# Altium footprint library CGRA_pcblib.PcbLib: 54 footprints (part 3 of 4)
Each footprint in its own frame and in the unit in brackets; x right, y up, seen from the top. Pads: shape width x height; smd on the part's side, far side on the other; paste and mask are expansions set on the pad; w line width, h text height; cw(c..) or ccw(c..) is an arc to the next point about the centre after c.
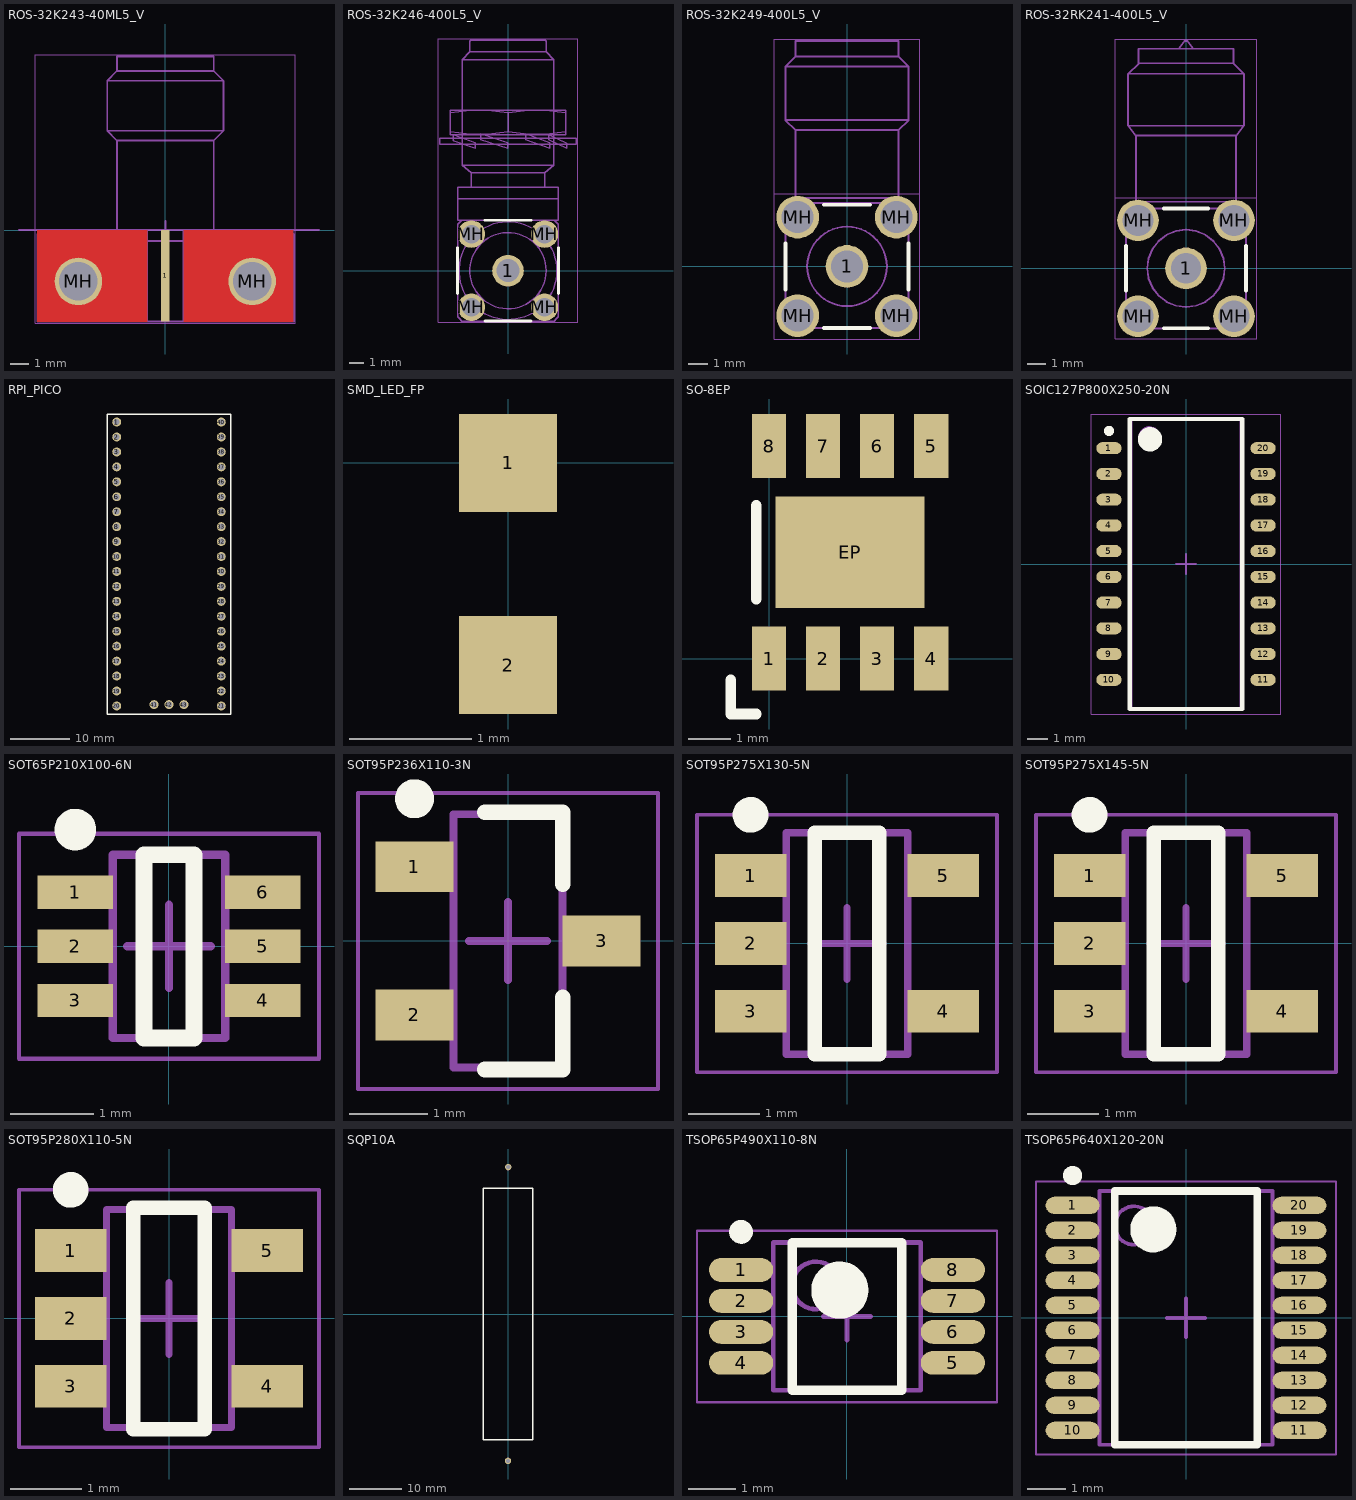
[diagram p2: the footprints below, top view; thin cyan lines are the x and y axes]

## ROS-32K243-40ML5_V [mm] "SMA Jack, Right Angle, Edge Mount Screw On, 14.50x14.00x5.15mm, Rosenberger Recommended"
height 5.15
pads (3):
  rect 0.48x5 smd: 1(0,-2.5)
  round 2.6 hole 2.1: MH(-4.75,-2.8) MH(4.75,-2.8)
Top Layer:
  region: 1,0 4.75,0 4.75,-1.75 4.888,-1.75 5.155,-1.822 5.395,-1.96 5.59,-2.155 5.728,-2.395 5.8,-2.662 5.8,-2.938 5.728,-3.205 5.59,-3.445 5.395,-3.64 5.155,-3.778 4.888,-3.85 4.75,-3.85 4.612,-3.85 4.345,-3.778 4.105,-3.64 3.91,-3.445 3.772,-3.205 3.7,-2.938 3.7,-2.662 3.772,-2.395 3.91,-2.155 4.105,-1.96 4.345,-1.822 4.612,-1.75 4.75,-1.75 4.75,0 7,0 7,-5 1,-5
  region: -1,0 -4.75,0 -4.75,-1.75 -4.888,-1.75 -5.155,-1.822 -5.395,-1.96 -5.59,-2.155 -5.728,-2.395 -5.8,-2.662 -5.8,-2.938 -5.728,-3.205 -5.59,-3.445 -5.395,-3.64 -5.155,-3.778 -4.888,-3.85 -4.75,-3.85 -4.612,-3.85 -4.345,-3.778 -4.105,-3.64 -3.91,-3.445 -3.772,-3.205 -3.7,-2.938 -3.7,-2.662 -3.772,-2.395 -3.91,-2.155 -4.105,-1.96 -4.345,-1.822 -4.612,-1.75 -4.75,-1.75 -4.75,0 -7,0 -7,-5 -1,-5
Bottom Layer:
  region: -1,0 -4.75,0 -4.75,-1.75 -4.888,-1.75 -5.155,-1.822 -5.395,-1.96 -5.59,-2.155 -5.728,-2.395 -5.8,-2.662 -5.8,-2.938 -5.728,-3.205 -5.59,-3.445 -5.395,-3.64 -5.155,-3.778 -4.888,-3.85 -4.75,-3.85 -4.612,-3.85 -4.345,-3.778 -4.105,-3.64 -3.91,-3.445 -3.772,-3.205 -3.7,-2.938 -3.7,-2.662 -3.772,-2.395 -3.91,-2.155 -4.105,-1.96 -4.345,-1.822 -4.612,-1.75 -4.75,-1.75 -4.75,0 -7,0 -7,-5 -1,-5
  region: 1,0 4.75,0 4.75,-1.75 4.888,-1.75 5.155,-1.822 5.395,-1.96 5.59,-2.155 5.728,-2.395 5.8,-2.662 5.8,-2.938 5.728,-3.205 5.59,-3.445 5.395,-3.64 5.155,-3.778 4.888,-3.85 4.75,-3.85 4.612,-3.85 4.345,-3.778 4.105,-3.64 3.91,-3.445 3.772,-3.205 3.7,-2.938 3.7,-2.662 3.772,-2.395 3.91,-2.155 4.105,-1.96 4.345,-1.822 4.612,-1.75 4.75,-1.75 4.75,0 7,0 7,-5 1,-5
Mechanical 3:
  lines w0.1: -8,0 8.4,0
  text "Board Edge" at -10.5,0.1 h0.2
Mechanical 13:
  circle w0.1: c-4.75,-2.8 r1.89
  circle w0.1: c4.75,-2.8 r1.89
  lines w0.1: -7,-0.6 7,-0.6 ; -6.458,-5 -6.458,-0.2 ; -2.65,-0.2 -2.65,4.9 ; -1,-5 -1,-0.2 ; -1,-0.6 1,-0.6 ; -0.125,0 -0.125,-0.79 0.125,-0.79 0.125,0 ; 1,-5 1,-0.2 ; 2.65,-0.2 2.65,4.9 ; 6.458,-5 6.458,-0.2 ; -6.458,-0.2 -1,-0.2 ; -6.458,-0.2 -7,-0.2 -7,-5 7,-5 7,-0.2 6.458,-0.2 ; -3.18,5.43 -2.65,4.9 ; -3.18,5.43 -3.18,8.17 ; -3.18,5.43 3.18,5.43 ; -3.18,8.17 -2.65,8.7 ; -3.18,8.17 3.18,8.17 ; -2.65,4.9 2.65,4.9 ; -2.65,8.7 -2.65,9.5 2.65,9.5 2.65,8.7 ; -2.65,8.7 2.65,8.7 ; -1,-0.2 -1,0 1,0 1,-0.2 ; 1,-0.2 6.458,-0.2 ; 2.65,4.9 3.18,5.43 ; 2.65,8.7 3.18,8.17 ; 3.18,5.43 3.18,8.17 ; -5.616,-2.8 -5.183,-3.55 -4.317,-3.55 -3.884,-2.8 -4.317,-2.05 -5.183,-2.05 -5.616,-2.8 ; 3.884,-2.8 4.317,-2.05 5.183,-2.05 5.616,-2.8 5.183,-3.55 4.317,-3.55 3.884,-2.8
Mechanical 15:
  lines w0.05: -7.1,-5.1 7.1,-5.1 7.1,9.6 -7.1,9.6 -7.1,-5.1
  lines w0.1: -0.5,0 0.5,0 ; 0,-0.5 0,0.5
3D body "32k243-40ml5.stp": height 5.15, standoff -4.85, extent -7,-5 7,9.5

## ROS-32K246-400L5_V [mm] "SMA Right Angle Jack, Panel Mount, 19.50x9.50x10.00mm, Rosenberger Recommended"
height 10
pads (5):
  round 2.2 hole 1.6: 1(0,0)
  round 1.9 hole 1.3: MH(-2.54,-2.54) MH(-2.54,2.54) MH(2.54,-2.54) MH(2.54,2.54)
Top Overlay:
  lines w0.2: -3.5,-1.591 -3.5,1.591 ; -1.591,-3.5 1.591,-3.5 ; -1.591,3.5 1.591,3.5 ; 3.5,-1.591 3.5,1.591
Mechanical 13:
  circle w0.1: c0,0 r0.635
  circle w0.1: c0,0 r3.4
  circle w0.1: c0,0 r2.65
  lines w0.1: -4,9.652 -3.439,9.575 -2.887,9.521 -2,9.486 -1.113,9.521 -0.561,9.575 0,9.652 ; -4,10.984 -3.439,11.061 -2.887,11.115 -2,11.15 -1.113,11.115 -0.561,11.061 0,10.984 ; -3.501,-3.21 ccw(c0,0) -3.21,-3.501 ; -3.501,3.21 cw(c0,0) -3.21,3.501 ; -3.5,-3.211 -3.5,3.211 ; -3.211,-3.5 3.211,-3.5 ; -2.56,5.8 -2.56,6.8 ; 1.231,9.5 2.899,8.9 2.899,8.5 1.231,9.11 1.231,9.51 ; 2.56,5.8 2.56,6.8 ; 3.21,-3.501 ccw(c0,0) 3.501,-3.21 ; 3.21,3.501 cw(c0,0) 3.501,3.21 ; 3.5,-3.211 3.5,3.209 ; 4,9.652 3.439,9.575 2.887,9.521 2,9.486 1.113,9.521 0.561,9.575 0,9.652 ; 4,10.984 3.439,11.061 2.887,11.115 2,11.15 1.113,11.115 0.561,11.061 0,10.984 ; -3.5,5 -3.5,3.5 -3.211,3.5 ; -3.5,5 3.5,5 ; -3.5,5 -3.5,5.8 3.5,5.8 3.5,5 ; -3.211,3.5 3.209,3.5 3.5,3.5 3.5,5 ; -3.175,7.325 -3.175,14.675 ; -3.175,7.325 -2.56,6.8 ; -3.175,7.325 3.175,7.325 ; -3.175,14.675 -2.65,15.2 ; -3.175,14.675 3.175,14.675 ; -2.65,15.2 -2.65,15.95 -2.6,16 2.6,16 2.65,15.95 2.65,15.2 ; -2.65,15.2 2.65,15.2 ; -2.56,6.8 2.56,6.8 ; 0,9.652 0,10.984 ; 2.56,6.8 3.175,7.325 ; 2.65,15.2 3.175,14.675 ; 3.175,7.325 3.175,14.675 ; -4.75,8.8 -4.75,9.2 4.75,9.2 4.75,8.8 -4.75,8.8 ; -4,9.45 4,9.45 4,11.15 -4,11.15 -4,9.45 ; -3.82,9.016 -3.81,9.45 -2.263,8.9 -2.263,8.5 -3.82,9.016 ; -2.94,-2.94 -2.94,-2.14 -2.14,-2.14 -2.14,-2.94 -2.94,-2.94 ; -2.94,2.14 -2.14,2.14 -2.14,2.94 -2.94,2.94 -2.94,2.14 ; -1.895,9.1 -1.895,9.5 0,8.9 0,8.5 -1.895,9.1 ; 2.14,-2.94 2.14,-2.14 2.94,-2.14 2.94,-2.94 2.14,-2.94 ; 2.14,2.14 2.94,2.14 2.94,2.94 2.14,2.94 2.14,2.14 ; 2.838,9.1 2.838,9.45 4.1,8.85 4.1,8.5 2.838,9.1
Mechanical 15:
  lines w0.05: -4.85,-3.6 4.85,-3.6 4.85,16.1 -4.85,16.1 -4.85,-3.6
  lines w0.1: -0.5,0 0.5,0 ; 0,-0.5 0,0.5
3D body "32k246-400l5.stp": height 10, standoff -4, extent -4.75,-3.5 4.75,16

## ROS-32K249-400L5_V [mm] "SMA Right Angle Jack, 14.8x6.35x9.7mm, Rosenberger Recommended"
height 9.7
pads (5):
  round 2.2 hole 1.65: 1(0,0) MH(-2.54,-2.54) MH(-2.54,2.54) MH(2.54,-2.54) MH(2.54,2.54)
Top Overlay:
  lines w0.2: -3.175,-1.181 -3.175,1.181 ; -1.181,-3.175 1.181,-3.175 ; -1.181,3.175 1.181,3.175 ; 3.175,-1.181 3.175,1.181
Mechanical 13:
  circle w0.1: c0,0 r0.635
  circle w0.1: c0,0 r2.05
  lines w0.1: -3.175,-1.708 -2.161,-1.708 -2.02,-1.874 -1.866,-2.028 -1.7,-2.17 -1.7,-3.183 ; -3.175,1.708 -2.161,1.708 -2.02,1.874 -1.866,2.028 -1.7,2.17 -1.7,3.183 -2.9,3.183 -3.175,2.908 -3.175,-2.908 -2.9,-3.183 ; -2.9,-3.183 2.9,-3.183 ; 1.7,-3.183 1.7,-2.17 1.866,-2.028 2.02,-1.874 2.161,-1.708 3.175,-1.708 ; 2.9,-3.183 3.175,-2.908 3.175,2.908 2.9,3.183 1.7,3.183 1.7,2.17 1.866,2.028 2.02,1.874 2.161,1.708 3.175,1.708 ; -3.175,7.542 -3.175,10.292 ; -3.175,7.542 3.175,7.542 ; -3.175,7.542 -2.65,7.017 ; -3.175,10.292 3.175,10.292 ; -3.175,10.292 -2.65,10.817 ; -2.65,3.517 -2.65,7.017 ; -2.65,3.517 2.65,3.517 ; -2.65,3.517 -2.9,3.267 2.9,3.267 2.65,3.517 ; -2.65,7.017 2.65,7.017 ; -2.65,10.817 2.65,10.817 ; -2.65,10.817 -2.65,11.617 2.65,11.617 2.65,10.817 ; 2.65,3.517 2.65,7.017 ; 2.65,7.017 3.175,7.542 ; 2.65,10.817 3.175,10.292 ; 3.175,7.542 3.175,10.292 ; -3.04,-3.048 -2.04,-3.048 -2.04,-2.048 -3.04,-2.048 -3.04,-3.048 ; -3.04,2.032 -3.04,3.032 -2.04,3.032 -2.04,2.032 -3.04,2.032 ; 2.04,-3.048 2.04,-2.048 3.04,-2.048 3.04,-3.048 2.04,-3.048 ; 2.04,2.032 3.04,2.032 3.04,3.032 2.04,3.032 2.04,2.032
Mechanical 15:
  lines w0.05: -3.74,3.74 3.74,3.74 ; -3.74,-3.74 3.74,-3.74 3.74,11.717 -3.74,11.717 -3.74,-3.74
  lines w0.1: -0.5,0 0.5,0 ; 0,-0.5 0,0.5
3D body "32k249-400l5.stp": height 9.7, standoff -4, extent -3.175,-3.183 3.175,11.617

## ROS-32RK241-400L5_V [mm] "Reverse-SMA Straight Jack, 15.215x6.35x9.7mm, Rosenberger Recommended"
height 9.7
pads (5):
  round 2.2 hole 1.6: 1(0,0)
  round 2.2 hole 1.65: MH(-2.54,-2.54) MH(-2.54,2.54) MH(2.54,-2.54) MH(2.54,2.54)
Top Overlay:
  lines w0.2: -3.175,-1.181 -3.175,1.181 ; -1.181,-3.175 1.181,-3.175 ; -1.181,3.175 1.181,3.175 ; 3.175,-1.181 3.175,1.181
Mechanical 13:
  circle w0.1: c0,0 r0.635
  lines w0.1: -3.175,-2.9 -3.175,2.9 -3.086,2.995 -2.994,3.086 ; -3.175,-2.9 -3.086,-2.994 -2.995,-3.086 -2.9,-3.175 2.905,-3.175 ; -3.175,-1.7 -2.161,-1.7 ; -3.175,1.7 -2.162,1.7 ; -2.9,3.175 -2.994,3.086 ; -2.65,4.036 -2.65,7.02 -2.65,3.525 ; -2.161,-1.7 -2.02,-1.866 -1.866,-2.02 -1.7,-2.162 ; -2.162,1.7 -2.02,1.866 -1.866,2.02 -1.7,2.161 ; -1.7,-3.175 -1.7,-2.162 ; -1.7,2.161 -1.7,3.175 ; -0.375,11.625 -0.071,12.04 0.071,12.04 0.375,11.625 ; 1.7,-2.161 1.866,-2.02 2.02,-1.866 2.162,-1.7 ; 1.7,2.162 1.866,2.02 2.02,1.866 2.161,1.7 ; 1.7,-3.175 1.7,-2.161 ; 1.7,2.162 1.7,3.175 ; 2.162,-1.7 3.175,-1.7 ; 2.161,1.7 3.175,1.7 ; 2.65,4.036 2.65,7.02 2.65,3.525 ; 2.9,-3.175 2.994,-3.086 3.086,-2.995 3.175,-2.9 ; 3.175,-2.905 3.175,2.9 ; 3.175,2.9 3.086,2.994 2.995,3.086 ; -3.067,7.55 -3.067,10.3 ; -3.067,7.55 -2.65,7.025 ; -3.067,7.55 3.067,7.55 ; -3.067,7.55 -3.067,10.3 ; -3.067,7.55 -2.65,7.025 ; -3.067,10.3 -2.512,10.825 -3.067,10.3 ; -3.067,10.3 3.067,10.3 ; -2.995,3.086 -2.9,3.175 ; -2.9,3.175 2.9,3.175 ; -2.9,3.175 -2.65,3.525 ; -2.65,3.525 2.65,3.525 ; -2.65,7.025 2.65,7.025 ; -2.512,10.855 -2.512,11.625 ; -2.512,10.855 2.512,10.855 ; -2.512,10.855 -2.512,11.625 ; -2.512,11.625 2.511,11.625 -2.512,11.625 ; 2.512,10.855 3.067,10.3 ; 2.512,10.855 2.512,11.625 2.512,10.855 ; 2.512,10.855 3.067,10.3 ; 2.65,3.525 2.9,3.175 ; 2.65,7.025 3.067,7.55 ; 2.65,7.025 3.067,7.55 ; 2.9,3.175 2.995,3.086 ; 2.9,3.175 2.995,3.086 ; 3.067,7.55 3.067,10.3 ; 3.067,7.55 3.067,10.3 ; -3.04,-3.04 -3.04,-2.04 -2.04,-2.04 -2.04,-3.04 -3.04,-3.04 ; -3.04,2.04 -3.04,3.04 -2.04,3.04 -2.04,2.04 -3.04,2.04 ; -2.05,0 -1.98,-0.53 -1.775,-1.025 -1.45,-1.449 -1.025,-1.775 -0.531,-1.98 0,-2.05 0.53,-1.98 1.025,-1.775 1.449,-1.45 1.775,-1.025 1.98,-0.531 2.05,0 1.98,0.53 1.775,1.025 1.45,1.449 1.025,1.775 0.531,1.98 0,2.05 -0.53,1.98 -1.025,1.775 -1.449,1.45 -1.775,1.025 -1.98,0.531 -2.05,0 ; 2.04,-3.04 2.04,-2.04 3.04,-2.04 3.04,-3.04 2.04,-3.04 ; 2.04,2.04 2.04,3.04 3.04,3.04 3.04,2.04 2.04,2.04
Mechanical 15:
  lines w0.05: -3.74,3.74 3.74,3.74 ; -3.74,-3.74 -3.74,12.14 3.74,12.14 3.74,-3.74 -3.74,-3.74
3D body "32rk241-400l5.stp": height 9.7, standoff -4, extent -3.175,-3.175 3.175,12.04

## RPI_PICO [mil]
pads (43):
  round 60 hole 40.16: 1(-15760,40175) 2(-15760,40075) 3(-15760,39975) 4(-15760,39875) 5(-15760,39775) 6(-15760,39675) 7(-15760,39575) 8(-15760,39475) 9(-15760,39375) 10(-15760,39275) 11(-15760,39175) 12(-15760,39075) 13(-15760,38975) 14(-15760,38875) 15(-15760,38775) 16(-15760,38675) 17(-15760,38575) 18(-15760,38475) 19(-15760,38375) 20(-15760,38275) 21(-15060,38275) 22(-15060,38375) 23(-15060,38475) 24(-15060,38575) 25(-15060,38675) 26(-15060,38775) 27(-15060,38875) 28(-15060,38975) 29(-15060,39075) 30(-15060,39175) 31(-15060,39275) 32(-15060,39375) 33(-15060,39475) 34(-15060,39575) 35(-15060,39675) 36(-15060,39775) 37(-15060,39875) 38(-15060,39975) 39(-15060,40075) 40(-15060,40175) 41(-15510,38284.06) 42(-15410,38284.06) 43(-15310,38284.06)
Top Overlay:
  lines w10: -15823.39,38221.06 -14996.61,38221.06 -14996.61,40228.94 -15823.39,40228.94 -15823.39,38221.06

## SMD_LED_FP [mm]
pads (2):
  rect 0.8x0.8 smd: 1(0,0) 2(0,-1.65)

## SO-8EP [mm]
height 1.5
pads (9):
  rect 0.802x1.505 smd: 1(0,0) 2(1.27,0) 3(2.54,0) 4(3.81,0) 5(3.81,4.995) 6(2.54,4.995) 7(1.27,4.995) 8(0,4.995)
  rect 3.502x2.613 smd: EP(1.905,2.498)
Top Overlay:
  lines w0.254: -0.9,-0.5 -0.9,-1.3 -0.3,-1.3 ; -0.3,1.4 -0.3,3.6

## SOIC127P800X250-20N [mm] "SOIC, 20-Leads, Body 14.30x5.40mm, Pitch 1.27mm, IPC Medium Density"
height 2.5
pads (20):
  oval 1.25x0.6 smd: 1(-3.8,5.715) 2(-3.8,4.445) 3(-3.8,3.175) 4(-3.8,1.905) 5(-3.8,0.635) 6(-3.8,-0.635) 7(-3.8,-1.905) 8(-3.8,-3.175) 9(-3.8,-4.445) 10(-3.8,-5.715) 11(3.8,-5.715) 12(3.8,-4.445) 13(3.8,-3.175) 14(3.8,-1.905) 15(3.8,-0.635) 16(3.8,0.635) 17(3.8,1.905) 18(3.8,3.175) 19(3.8,4.445) 20(3.8,5.715)
Top Overlay:
  circle w0.25: c-3.8,6.565 r0.125
  circle w0.6: c-1.775,6.15 r0.3
  lines w0.2: -2.775,-7.15 -2.775,7.15 2.775,7.15 2.775,-7.15 -2.775,-7.15
Mechanical 13:
  circle w0.1: c-1.8,6.25 r0.5
  lines w0.1: -2.7,-7.15 -2.7,7.15 2.7,7.15 2.7,-7.15 -2.7,-7.15
Mechanical 15:
  lines w0.05: -4.675,-7.4 -4.675,7.4 4.675,7.4 4.675,-7.4 -4.675,-7.4
  lines w0.1: -0.5,0 0.5,0 ; 0,-0.5 0,0.5
3D body: height 2.5, standoff 0.1, extent -2.7,-7.15 2.7,7.15

## SOT65P210X100-6N [mm] "SOT23, 6-Leads, Body 2.00x2.10mm, Pitch 0.65mm, IPC Medium Density"
height 1
pads (6):
  rect 0.9x0.4 smd: 1(-1.125,0.65) 2(-1.125,0) 3(-1.125,-0.65) 4(1.125,-0.65) 5(1.125,0) 6(1.125,0.65)
Top Overlay:
  circle w0.25: c-1.125,1.4 r0.125
  lines w0.2: -0.3,-1.1 0.3,-1.1 0.3,1.1 -0.3,1.1 -0.3,-1.1
Mechanical 13:
  lines w0.1: -0.675,-1.1 -0.675,1.1 0.675,1.1 0.675,-1.1 -0.675,-1.1
Mechanical 15:
  lines w0.05: -1.8,-1.35 -1.8,1.35 1.8,1.35 1.8,-1.35 -1.8,-1.35
  lines w0.1: -0.5,0 0.5,0 ; 0,-0.5 0,0.5
3D body: height 1, standoff 0.1, extent -0.675,-1.1 0.675,1.1

## SOT95P236X110-3N [mm] "SOT23, 3-Leads, Body 2.98x2.36mm, Pitch 0.95mm, IPC Medium Density"
height 1.1
pads (3):
  rect 1x0.65 smd: 1(-1.2,0.95) 2(-1.2,-0.95) 3(1.2,0)
Top Overlay:
  circle w0.25: c-1.2,1.825 r0.125
  lines w0.2: -0.3,-1.65 0.7,-1.65 0.7,-0.725 ; -0.3,1.65 0.7,1.65 0.7,0.725
Mechanical 13:
  lines w0.1: -0.7,-1.625 -0.7,1.625 0.7,1.625 0.7,-1.625 -0.7,-1.625
Mechanical 15:
  lines w0.05: -1.925,-1.9 -1.925,1.9 1.925,1.9 1.925,-1.9 -1.925,-1.9
  lines w0.1: -0.5,0 0.5,0 ; 0,-0.5 0,0.5
3D body: height 1.1, standoff 0.1, extent -0.7,-1.625 0.7,1.625

## SOT95P275X130-5N [mm] "SOT23, 5-Leads, Body 2.90x2.75mm, Pitch 0.95mm, IPC Medium Density"
height 1.3
pads (5):
  rect 1x0.6 smd: 1(-1.35,0.95) 2(-1.35,0) 3(-1.35,-0.95) 4(1.35,-0.95) 5(1.35,0.95)
Top Overlay:
  circle w0.25: c-1.35,1.8 r0.125
  lines w0.2: -0.45,-1.55 -0.45,1.55 0.45,1.55 0.45,-1.55 -0.45,-1.55
Mechanical 13:
  lines w0.1: -0.85,-1.55 0.85,-1.55 0.85,1.55 -0.85,1.55 -0.85,-1.55
Mechanical 15:
  lines w0.05: -2.1,-1.8 2.1,-1.8 2.1,1.8 -2.1,1.8 -2.1,-1.8
  lines w0.1: -0.5,0 0.5,0 ; 0,-0.5 0,0.5
3D body: height 1.3, standoff 0.05, extent -0.85,-1.55 0.85,1.55

## SOT95P275X145-5N [mm] "SOT23, 5-Leads, Body 2.90x2.75mm, Pitch 0.95mm, IPC Medium Density"
height 1.45
pads (5):
  rect 1x0.6 smd: 1(-1.35,0.95) 2(-1.35,0) 3(-1.35,-0.95) 4(1.35,-0.95) 5(1.35,0.95)
Top Overlay:
  circle w0.25: c-1.35,1.8 r0.125
  lines w0.2: -0.45,-1.55 -0.45,1.55 0.45,1.55 0.45,-1.55 -0.45,-1.55
Mechanical 13:
  lines w0.1: -0.85,-1.55 0.85,-1.55 0.85,1.55 -0.85,1.55 -0.85,-1.55
Mechanical 15:
  lines w0.05: -2.1,-1.8 2.1,-1.8 2.1,1.8 -2.1,1.8 -2.1,-1.8
  lines w0.1: -0.5,0 0.5,0 ; 0,-0.5 0,0.5
3D body: height 1.45, standoff 0.15, extent -0.85,-1.55 0.85,1.55

## SOT95P280X110-5N [mm] "SOT23, 5-Leads, Body 2.90x2.80mm, Pitch 0.95mm, IPC Medium Density"
height 1.1
pads (5):
  rect 1x0.6 smd: 1(-1.375,0.95) 2(-1.375,0) 3(-1.375,-0.95) 4(1.375,-0.95) 5(1.375,0.95)
Top Overlay:
  circle w0.25: c-1.375,1.8 r0.125
  lines w0.2: -0.5,-1.55 0.5,-1.55 0.5,1.55 -0.5,1.55 -0.5,-1.55
Mechanical 13:
  lines w0.1: -0.875,-1.525 -0.875,1.525 0.875,1.525 0.875,-1.525 -0.875,-1.525
Mechanical 15:
  lines w0.05: -2.1,-1.8 -2.1,1.8 2.1,1.8 2.1,-1.8 -2.1,-1.8
  lines w0.1: -0.5,0 0.5,0 ; 0,-0.5 0,0.5
3D body: height 1.1, standoff 0.25, extent -0.875,-1.525 0.875,1.525

## SQP10A [mm]
pads (2):
  round 1.2 hole 0.8: 1(0.05,28) 2(0,-28)
Top Overlay:
  lines w0.254: -4.75,-24 4.75,-24 4.75,24 -4.75,24 -4.75,-24

## TSOP65P490X110-8N [mm] "TSOP, 8-Leads, Body 3.00x3.00mm, Pitch 0.65mm, IPC Medium Density"
height 1.1
pads (8):
  oval 1.35x0.5 smd: 1(-2.225,0.975) 2(-2.225,0.325) 3(-2.225,-0.325) 4(-2.225,-0.975) 5(2.225,-0.975) 6(2.225,-0.325) 7(2.225,0.325) 8(2.225,0.975)
Top Overlay:
  circle w0.6: c-0.15,0.55 r0.3
  circle w0.25: c-2.225,1.775 r0.125
  lines w0.2: -1.15,-1.55 1.15,-1.55 1.15,1.55 -1.15,1.55 -1.15,-1.55
Mechanical 13:
  circle w0.1: c-0.65,0.65 r0.5
  lines w0.1: -1.55,-1.55 1.55,-1.55 1.55,1.55 -1.55,1.55 -1.55,-1.55
Mechanical 15:
  lines w0.05: -3.15,-1.8 3.15,-1.8 3.15,1.8 -3.15,1.8 -3.15,-1.8
  lines w0.1: -0.5,0 0.5,0 ; 0,-0.5 0,0.5
3D body: height 1.1, standoff 0.05, extent -1.55,-1.55 1.55,1.55

## TSOP65P640X120-20N [mm] "TSOP, 20-Leads, Body 6.50x4.40mm, Pitch 0.65mm, IPC Medium Density"
height 1.2
pads (20):
  oval 1.4x0.45 smd: 1(-2.95,2.925) 2(-2.95,2.275) 3(-2.95,1.625) 4(-2.95,0.975) 5(-2.95,0.325) 6(-2.95,-0.325) 7(-2.95,-0.975) 8(-2.95,-1.625) 9(-2.95,-2.275) 10(-2.95,-2.925) 11(2.95,-2.925) 12(2.95,-2.275) 13(2.95,-1.625) 14(2.95,-0.975) 15(2.95,-0.325) 16(2.95,0.325) 17(2.95,0.975) 18(2.95,1.625) 19(2.95,2.275) 20(2.95,2.925)
Top Overlay:
  circle w0.6: c-0.85,2.3 r0.3
  circle w0.25: c-2.95,3.7 r0.125
  lines w0.2: -1.85,-3.3 1.85,-3.3 1.85,3.3 -1.85,3.3 -1.85,-3.3
Mechanical 13:
  circle w0.1: c-1.35,2.4 r0.5
  lines w0.1: -2.25,-3.3 2.25,-3.3 2.25,3.3 -2.25,3.3 -2.25,-3.3
Mechanical 15:
  lines w0.05: -3.9,-3.55 3.9,-3.55 3.9,3.55 -3.9,3.55 -3.9,-3.55
  lines w0.1: -0.5,0 0.5,0 ; 0,-0.5 0,0.5
3D body: height 1.2, standoff 0.05, extent -2.25,-3.3 2.25,3.3